# Altium schematic symbol library PBL - Switches.SCHLIB: 13 symbols
Pins are listed as number, name and electrical type; pins without a type are passive.

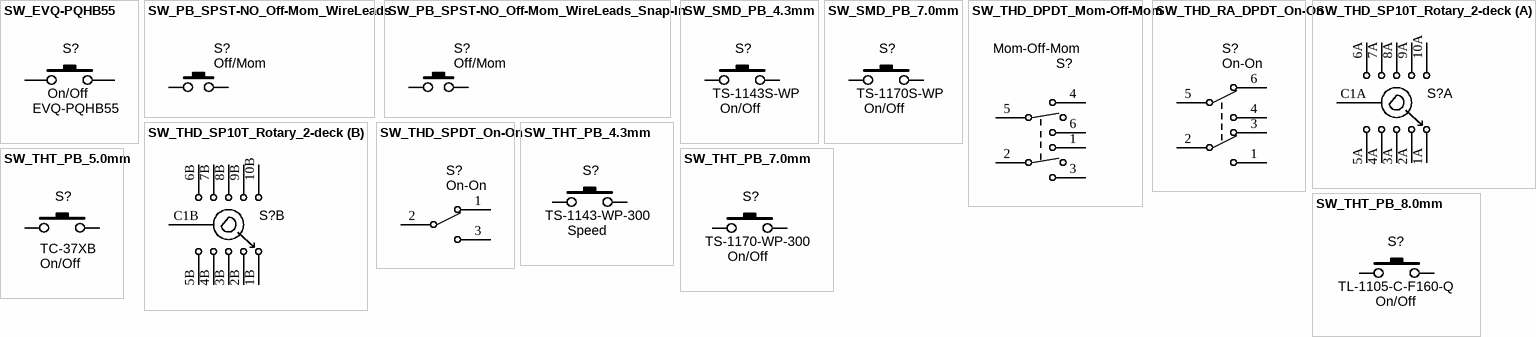
[diagram p0: symbols SW_EVQ-PQHB55 to SW_THT_PB_8.0mm]

## SW_EVQ-PQHB55
designator S?, comment Function: On/Off  (hidden comment: EVQ-PQHB55)
Low-profile captive tact switch; Manufacturer 1: Panasonic - ECG; Ratings: 1.6 Newton; Switch Function: Off-Mom; Contact Rating @ Voltage: 0.02A @ 15VDC; Outline: 4.50mm x 4.50mm; Operating Force: 160gf; SCDType: spec; Package / Case: per dwg; Supplier 1: Digi-Key; Supplier Part Number 1: P8090SCT-ND; Mounting Type: Surface Mount; Orientation: Vertical; ComponentLink1URL: http://industrial.panasonic.com/www-data/pdf/ATK0000/ATK0000CE1.pdf; ComponentLink1Description: http://industrial.panasonic.com/www-data/pdf/ATK0000/ATK0000CE1.pdf; Manufacturer Part Number 1: EVQ-PQHB55
footprint SWITCH_TACT-EVQPQXB55 (Panasonic SMD tact switch 4.5x4.5x0.55mm, EVQPQxB55)
pins: 1, 2

## SW_PB_SPST-NO_Off-Mom_WireLeads
designator S?, comment Function: Off/Mom  (hidden comment: OFF-MOM)
Switch wire leads momentary SPST; Manufacturer 1: Judco Manufacturing Inc; Manufacturer Part Number 1: 40-2390-00; SCDType: spec; Package / Case: Panel-mount with wire leads; Supplier 1: Digi-Key; Supplier Part Number 1: 506PB-ND
footprint SWITCH_DPDT_RA_7201K2A (DPDT Switch Right-angle PCB mount - C&K 7201K2A)
pins: 1, 2

## SW_PB_SPST-NO_Off-Mom_WireLeads_Snap-In
designator S?, comment Function: Off/Mom  (hidden comment: OFF-MOM)  (mechanical)
Switch momentary SPST panel mount with wire leads; Manufacturer 1: C&K Components; Manufacturer Part Number 1: AP4E200SWBE; SCDType: spec; Package / Case: Panel-mount with wire leads; Supplier 1: Digi-Key; Supplier Part Number 1: CKN9979-ND
footprint HDR_1x2_Generic (Connector Header, Single-row 2-position, 0.200" pitch)
pins: 1, 2

## SW_SMD_PB_4.3mm
designator S?, comment TS-1143S-WP  Function: On/Off
Switch SMD Tact 4.3mm Stem; Manufacturer 1: Bond-Tact; Manufacturer Part Number 1: TS-1143S-WP-200; SCDType: spec; Package / Case: 6.5x6.5mm; 4.3mm stem
footprint TS-1143S (6.5x6.5mm SMD tact switch 4.3mm stem)
pins: 1, 2

## SW_SMD_PB_7.0mm
designator S?, comment TS-1170S-WP  Function: On/Off
Switch SMD Tact 7.0mm Stem; Manufacturer 1: Bond-Tact; Manufacturer Part Number 1: TS-1170S-WP-200; SCDType: source; Package / Case: 6.5x6.5mm; 7.0mm stem; ComponentLink1URL: http://www.bondtact.com.hk/zaspx/productd.aspx?catno=3&subcatid=3&PageNo=2&productno=40; ComponentLink1Description: http://www.bondtact.com.hk/zaspx/productd.aspx?catno=3&subcatid=3&PageNo=2&productno=40
footprint TS-1170S (6.5x6.5mm SMD tact switch 7.0mm stem)
pins: 1, 2

## SW_THD_DPDT_Mom-Off-Mom
designator S?, comment MOM-OFF-MOM
Switch THD toggle momentary DPDT; Manufacturer 1: NKK Switches; Manufacturer Part Number 1: M2T28SA5G03; Contact Rating @ Voltage: 0.4VA @ 28VAC/DC; Actuator Type: Standard Round; Actuator Length: 12.70mm; Illumination: Non-Illuminated; SCDType: spec; Package / Case: 6.5x6.5mm; 4.3mm stem; Supplier 1: Digi-Key; Supplier Part Number 1: M2T28SA5G03-ND; Circuit: DPDT; Mounting Type: Through Hole; ComponentLink1URL: http://www.nkkswitches.com/pdf/M2toggles.pdf; ComponentLink1Description: http://www.nkkswitches.com/pdf/M2toggles.pdf; Switch Function: Mom-Off-Mom
footprint SWITCH_DPDT_M2 (NKK M2 Series DPDT Switch with 03 pin option)
pins: 1, 2, 3, 4, 5, 6

## SW_THD_RA_DPDT_On-On
designator S?, comment ON-ON
Switch THD right-angle toggle DPDT; Manufacturer 1: C&K Components; Manufacturer Part Number 1: 7201K2AQE; Contact Rating @ Voltage: 5A @ 120VAC; Actuator Type: Locking Lever; Actuator Length: 17.88mm; Illumination: Non-Illuminated; SCDType: spec; Circuit: DPDT; Mounting Type: Panel Mount, Right Angle; Supplier 1: Digi-Key; Supplier Part Number 1: CKN9722-ND; Bushing Thread: 1/4-40; Switch Function: On-On
footprint SWITCH_DPDT_RA_7201K2A (DPDT Switch Right-angle PCB mount - C&K 7201K2A)
pins: 1, 2, 3, 4, 5, 6

## SW_THD_SP10T_Rotary_2-deck
designator S?, comment 10 pos. rotary 2-deck  (value not drawn)
Switch THD rotary SP10T 2-deck; Manufacturer: Grayhill Inc; Manufacturer Part Number: 71ADF36-02PAJN; Number of Decks: 2; Number of Poles per Deck: 1; Number of Positions: 2 ~ 10; Angle of Throw: 36°; Contact Rating @ Voltage: 0.25A @ 28VDC; SCDType: spec; Package / Case: 6.5x6.5mm; 4.3mm stem; Supplier 1: Digi-Key; Supplier Part Number 1: GH7332-ND; Orientation: Right Angle; Circuit per Deck: SP10T; Function: Rotary
footprint SWITCH_ROTARY_SP10T (Grayhill 71AF style 2-deck single pole 10-position rotary switch)
part A pins: 1A, 2A, 3A, 4A, 5A, 6A, 7A, 8A, 9A, 10A, C1A
part B pins: 1B, 2B, 3B, 4B, 5B, 6B, 7B, 8B, 9B, 10B, C1B

## SW_THD_SPDT_On-On
designator S?, comment ON-ON
Switch THD vertical toggle SPDT; Manufacturer 1: TE Connectivity; Manufacturer Part Number 1: SLS121PC04; Contact Rating @ Voltage: 0.25A @ 125VAC; SCDType: spec; Circuit: SPDT; Mounting Type: PCB mount; Supplier 1: Digi-Key; Supplier Part Number 1: 450-1598-ND; Switch Function: On-On
footprint SWITCH_SPDT_SLIDER (TE Connectivity SLS121PC04 SPDT slider)
pins: 1, 2, 3

## SW_THT_PB_4.3mm
designator S?  Manufacturer Part Number 1: TS-1143-WP-300  Function: Speed
Switch, tact, 4.3mm stem; Manufacturer 1: Bond-Tact; SCDType: spec; Package / Case: 6.5x6.5mm; 4.3mm stem; Material: Brass/Nylon/Ag plating
footprint TACT-SWITCH-TS1143 (Bondtact sealed TH tact switch)
pins: 1, 2

## SW_THT_PB_5.0mm
designator S?  Manufacturer Part Number 1: TC-37XB  Function: On/Off
Switch, tact, 5.0mm stem; Manufacturer 1: Wealth Metal; SCDType: spec; Package / Case: 6.5x6.5mm; 5.0mm stem; Material: Brass/Nylon/Ag plating
footprint TACT-SWITCH-TC-37XB (Wealth Metal sealed TH tact switch)
pins: 1, 2

## SW_THT_PB_7.0mm
designator S?  Manufacturer Part Number 1: TS-1170-WP-300  Function: On/Off
Switch, tact, 7.0mm stem; Manufacturer 1: Bond-Tact; SCDType: source*; Package / Case: 6.5x6.5mm; 7.0mm stem; Material: Brass/Nylon/Ag plating
footprint TACT-SWITCH-TS1170 (Bondtact sealed TH tact switch)
pins: 1, 2

## SW_THT_PB_8.0mm
designator S?  Manufacturer Part Number 1: TL-1105-C-F160-Q  Function: On/Off
Switch Tact THD 8.0mm Stem; Manufacturer 1: E-Switch; SCDType: source*; Package / Case: 6.0x6.0mm; 8.0mm stem; Material: Brass/Nylon/Ag plating
footprint TACT-SWITCH-TS1180 (E-Switch TL1105 series tact switch)
pins: 1, 2